# Altium integrated library FDN360P.IntLib: 1 symbol
Pins are listed as number, name and electrical type; pins without a type are passive.

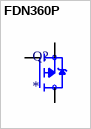
[diagram p0: symbol FDN360P]

## FDN360P
designator Q?
P-Channel 30V 2A (Ta) 500mW (Ta) Surface Mount SuperSOT-3; MF: ON; MP: FDN360P; Value: *; Package: TO-236-3 ON; Check_prices: https://www.snapeda.com/parts/FDN360P/Onsemi/view-part/?ref=eda; Price: None; Availability: In Stock; SnapEDA_Link: https://www.snapeda.com/parts/FDN360P/Onsemi/view-part/?ref=snap; Purchase-URL: https://pricing.snapeda.com/search/part/FDN360P/?ref=eda
footprint SOT95P251X112-3N
pins: 1 G, 2 S, 3 D